# Altium footprint library QFN40P700X700X90-61N-D.PcbLib: 1 footprints
Each footprint in its own frame and in the unit in brackets; x right, y up, seen from the top. Pads: shape width x height; smd on the part's side, far side on the other; paste and mask are expansions set on the pad; w line width, h text height; cw(c..) or ccw(c..) is an arc to the next point about the centre after c.
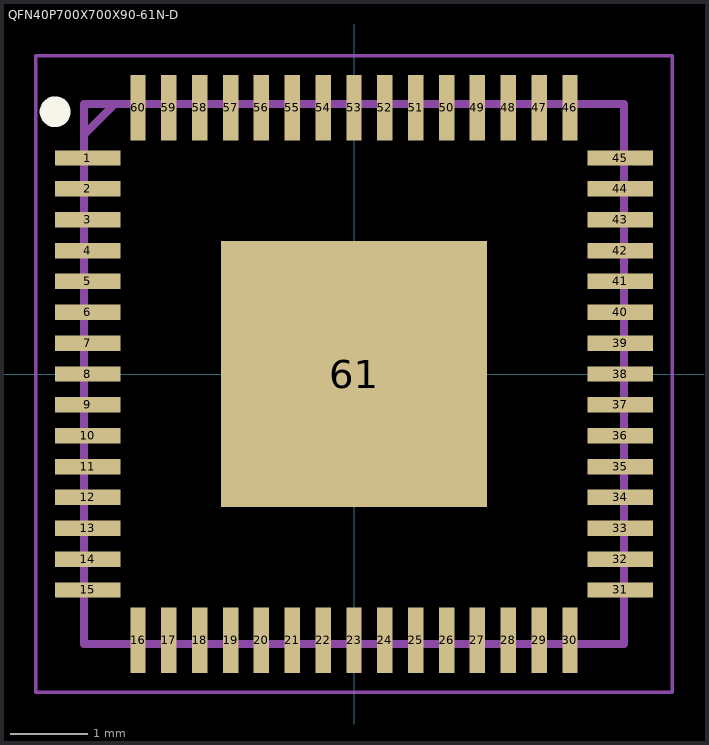
[diagram p0: the footprint, top view; thin cyan lines are the x and y axes]

## QFN40P700X700X90-61N-D [mm]
pads (61):
  rect 0.85x0.2 smd: 1(-3.45,2.8) 2(-3.45,2.4) 3(-3.45,2) 4(-3.45,1.6) 5(-3.45,1.2) 6(-3.45,0.8) 7(-3.45,0.4) 8(-3.45,0) 9(-3.45,-0.4) 10(-3.45,-0.8) 11(-3.45,-1.2) 12(-3.45,-1.6) 13(-3.45,-2) 14(-3.45,-2.4) 15(-3.45,-2.8) 31(3.45,-2.8) 32(3.45,-2.4) 33(3.45,-2) 34(3.45,-1.6) 35(3.45,-1.2) 36(3.45,-0.8) 37(3.45,-0.4) 38(3.45,0) 39(3.45,0.4) 40(3.45,0.8) 41(3.45,1.2) 42(3.45,1.6) 43(3.45,2) 44(3.45,2.4) 45(3.45,2.8)
  rect 0.2x0.85 smd: 16(-2.8,-3.45) 17(-2.4,-3.45) 18(-2,-3.45) 19(-1.6,-3.45) 20(-1.2,-3.45) 21(-0.8,-3.45) 22(-0.4,-3.45) 23(0,-3.45) 24(0.4,-3.45) 25(0.8,-3.45) 26(1.2,-3.45) 27(1.6,-3.45) 28(2,-3.45) 29(2.4,-3.45) 30(2.8,-3.45) 46(2.8,3.45) 47(2.4,3.45) 48(2,3.45) 49(1.6,3.45) 50(1.2,3.45) 51(0.8,3.45) 52(0.4,3.45) 53(0,3.45) 54(-0.4,3.45) 55(-0.8,3.45) 56(-1.2,3.45) 57(-1.6,3.45) 58(-2,3.45) 59(-2.4,3.45) 60(-2.8,3.45)
  rect 3.45x3.45 smd: 61(0,0)
Top Overlay:
  circle w0.2: c-3.875,3.4 r0.1
Mechanical 15:
  lines w0.1: -3.5,3.1 -3.1,3.5 ; -3.5,-3.5 3.5,-3.5 3.5,3.5 -3.5,3.5 -3.5,-3.5
Mechanical 20:
  lines w0.05: -4.125,-4.125 4.125,-4.125 4.125,4.125 -4.125,4.125 -4.125,-4.125